# EAGLE library part TPS62026-REG-3.3V (library P2PlugTestUSB)
Texas Instruments TPS62026DGQR $2.36 IC REG BUCK 3.3V 600MA 10MSOP Buck Switching Regulator IC Positive Fixed 3.3V 1 Output 600mA 10-PowerTFSOP, 10-MSOP (0.118", 3.00mm Width) https://www.digikey.com/en/products/detail/texas-instruments/TPS62026DGQ/1672251 3.6V to 6V input 10uH inductor, 10 uF input and output caps
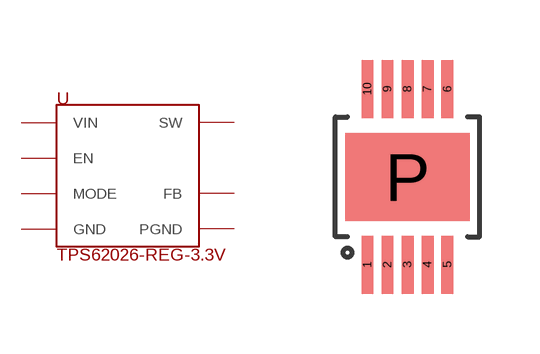
[diagram p3: symbol with the pads of 10-HVSSOP-TI; footprint 10-HVSSOP-TI]

Designator prefix U

## TPS62026-REG-3.3V (VALUE: TPS62026)  [10-HVSSOP-TI]
1  EN  in
2  VIN  pas
3  VIN  pas
4  GND  pas
5  FB  pas
6  MODE  in
7  SW  pas
8  SW  pas
9  PGND  pas
10  PGND  pas
P  GND  pas

## Footprint 10-HVSSOP-TI (pad centres in mm)
smd 0.3 x 1.45: 1 -1,-2.2; 2 -0.5,-2.2; 3 0,-2.2; 4 0.5,-2.2; 5 1,-2.2; 6 1,2.2; 7 0.5,2.2; 8 0,2.2; 9 -0.5,2.2; 10 -1,2.2
smd 3.1 x 2.2: P 0,0